# Altium schematic symbol library LTZ1000.SchLib: 1 symbol
Pins are listed as number, name and electrical type; pins without a type are passive.

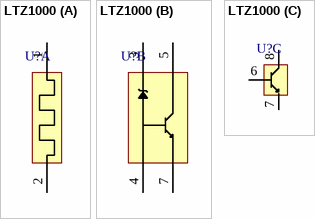
[diagram p0: symbol LTZ1000]

## LTZ1000
designator U?
LTZ1000
part A pins: 1 HEATER_P "High side of ring heater", 2 HEATER_N "Low side of ring heater - must remain a diode drop above ground"
part B pins: 3 "Low side of ring heater - must remain a diode drop above ground", 4 "Low side of ring heater - must remain a diode drop above ground", 5 "Low side of ring heater - must remain a diode drop above ground", 7 "Low side of ring heater - must remain a diode drop above ground"
part C pins: 6 "Low side of ring heater - must remain a diode drop above ground", 7 "Low side of ring heater - must remain a diode drop above ground", 8 "Low side of ring heater - must remain a diode drop above ground"